# EAGLE library part VND5E006ASP-E (library Roboracing)
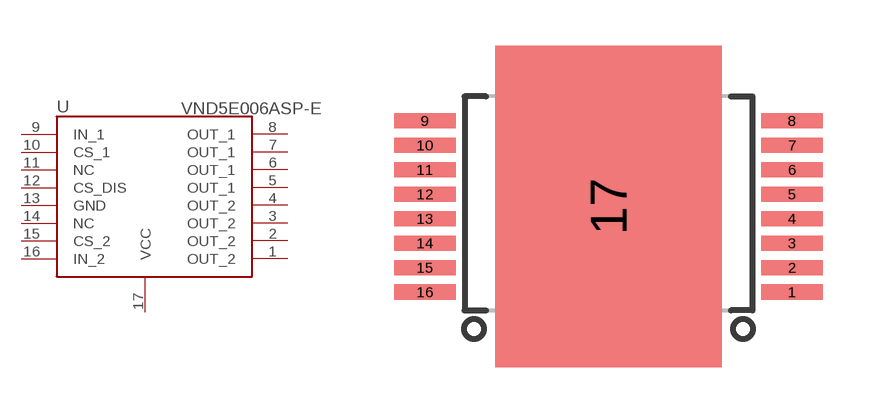
[diagram p1: symbol with the pads of POWERSO-16; footprint POWERSO-16]

Designator prefix -

## VND5E006ASP-E  [POWERSO-16]
1  OUT_2
2  OUT_2
3  OUT_2
4  OUT_2
5  OUT_1
6  OUT_1
7  OUT_1
8  OUT_1
9  IN_1
10  CS_1
11  NC
12  CS_DIS
13  GND
14  NC
15  CS_2
16  IN_2
17  VCC

## Footprint POWERSO-16 (pad centres in mm)
smd 2 x 0.5: 1 6,-2.8; 2 6,-2; 3 6,-1.2; 4 6,-0.4; 5 6,0.4; 6 6,1.2; 7 6,2; 8 6,2.8; 9 -6,2.8; 10 -6,2; 11 -6,1.2; 12 -6,0.4; 13 -6,-0.4; 14 -6,-1.2; 15 -6,-2; 16 -6,-2.8
smd 7.4 x 10.5: 17 0,0